# Altium footprint library PCB - LEADED - SOT - ROHM SC-75.PCBLIB: 1 footprints
Each footprint in its own frame and in the unit in brackets; x right, y up, seen from the top. Pads: shape width x height; smd on the part's side, far side on the other; paste and mask are expansions set on the pad; w line width, h text height; cw(c..) or ccw(c..) is an arc to the next point about the centre after c.
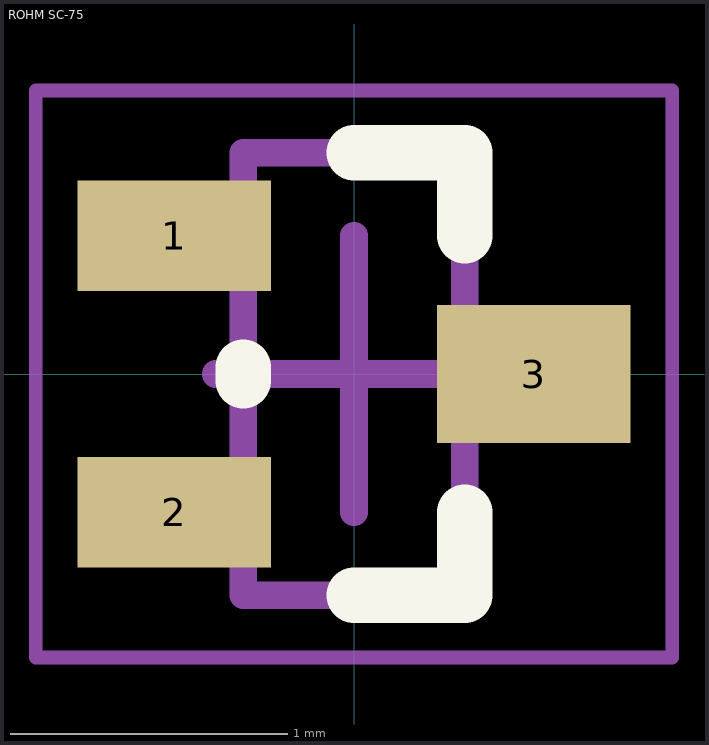
[diagram p0: the footprint, top view; thin cyan lines are the x and y axes]

## ROHM SC-75 [mm] "SOT, 3-Leads, Body 1.60x0.80mm, Pitch 1mm, IPC Medium Density"
height 0.8
pads (3):
  rect 0.7x0.4 smd: 1(-0.65,0.5) 2(-0.65,-0.5)
  rect 0.7x0.5 smd: 3(0.65,0)
Top Overlay:
  lines w0.2: -0.4,-0.025 -0.4,0.025 ; 0,-0.8 0.4,-0.8 0.4,-0.5 ; 0,0.8 0.4,0.8 0.4,0.5
Mechanical 13:
  lines w0.1: -0.4,-0.8 -0.4,0.8 0.4,0.8 0.4,-0.8 -0.4,-0.8
Mechanical 15:
  lines w0.05: -1.15,-1.025 1.15,-1.025 1.15,1.025 -1.15,1.025 -1.15,-1.025
  lines w0.1: -0.5,0 0.5,0 ; 0,-0.5 0,0.5
3D body "BJT - SC-75.step": height 0.9, standoff 0, extent -0.821,-0.799 0.821,0.799